# Altium schematic symbol library 5013311207.Schlib: 1 symbol
Pins are listed as number, name and electrical type; pins without a type are passive.

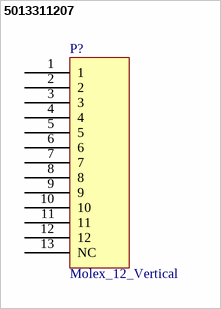
[diagram p0: symbol 5013311207]

## 5013311207
designator P?, comment Molex_12_Vertical
12 Pin Vertical Molex PCB Header
pins: 1, 2, 3, 4, 5, 6, 7, 8, 9, 10, 11, 12, 13 NC